# Altium schematic symbol library lps_regulator_3.SCHLIB: 43 symbols
Pins are listed as number, name and electrical type; pins without a type are passive.

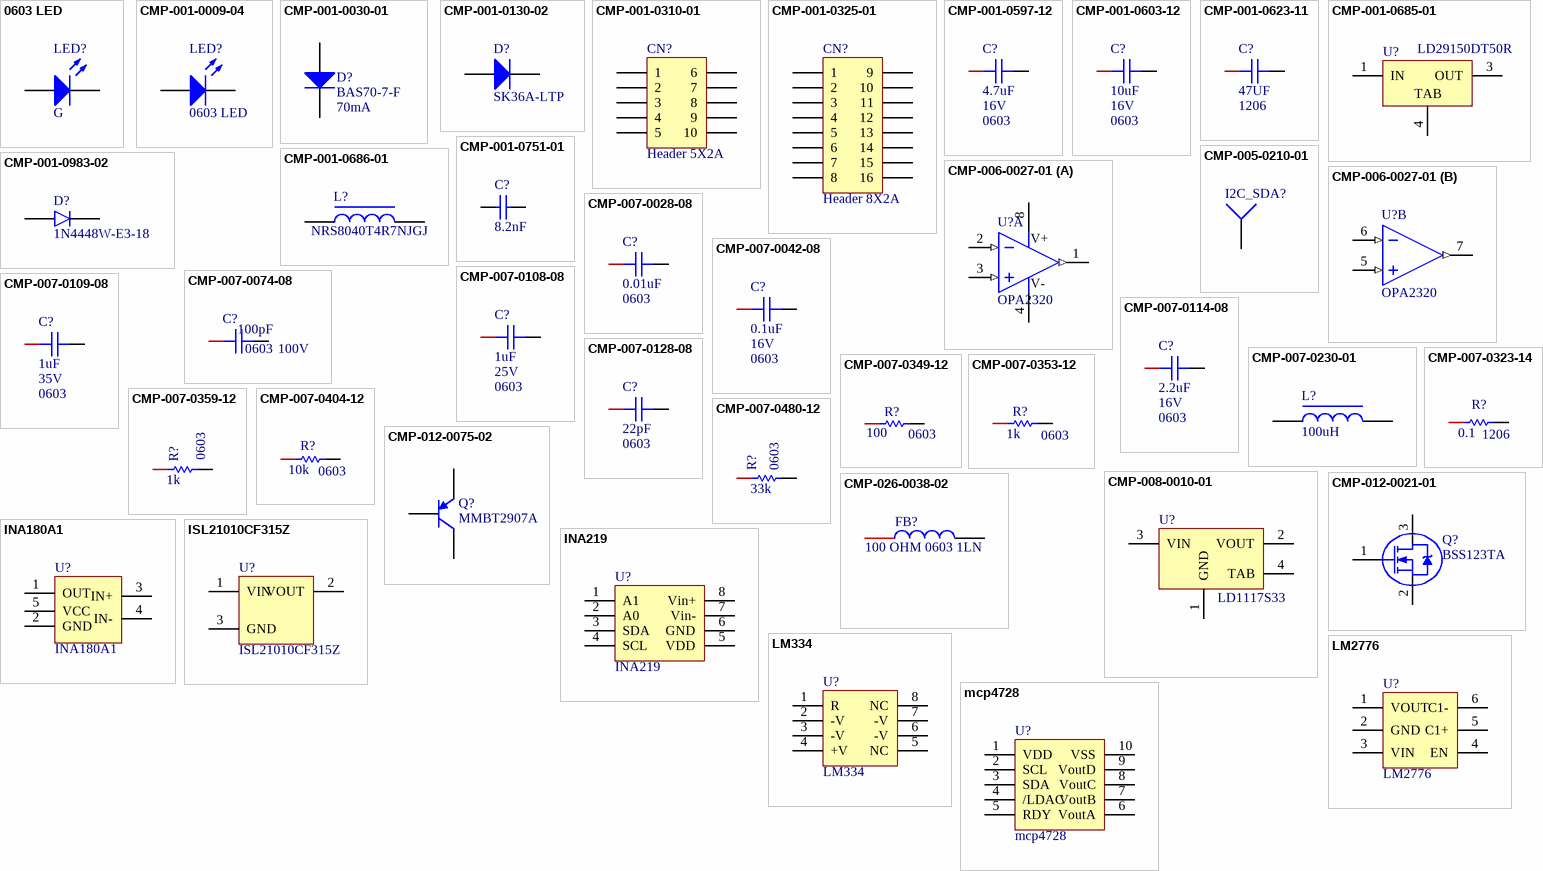
[diagram p0: symbols 0603 LED to mcp4728]

## 0603 LED
designator LED?, comment G
0603 SMD LED; PN: P11500CT-ND; Vendor: Digikey
footprint SM-LED-0603 (0603 LED)
pins: 1, 2

## CMP-001-0009-04
designator LED?, comment 0603 LED
0603 SMD LED; Manufacturer 1: Wurth Electronics; Manufacturer Part Number 1: 150060BS75000; Pin Count: 2; Designator: 0603 LED; Component Type: Diode
footprint SM-LED-0603 (0603 LED)
pins: 1 Anode, 2 Cathode

## CMP-001-0030-01
designator D?, comment BAS70-7-F  Output Current: 70mA
DIODE SCHOTTKY 70V 70MA SOT23-3; Manufacturer: Diodes; Power Dissipation: 200mW; Element Configuration: Single; Peak Non-Repetitive Surge Current: 100mA; Reverse Recovery Time: 5ns; Capacitance: 2pF; Forward Voltage: 1V; Polarity: Standard; Peak Reverse Current: 100nA; Max Reverse Voltage (DC): 70V; ComponentLink5URL: https://datasheet.ciiva.com/26949/getdatasheetpartid-110414-26949401.pdf; Package Quantity: 3000; Length: 3.05mm; ComponentLink2URL: https://datasheet.ciiva.com/911/ds11007-911988.pdf; Contact Plating: Tin,Matte; Min Operating Temperature: -55°C; ComponentLink5Description: https://datasheet.ciiva.com/26949/getdatasheetpartid-110414-26949401.pdf; Average Rectified Current: 70mA; ComponentLink6Description: https://datasheet.ciiva.com/27052/1539139-27052362.pdf; Pricing 1: 1=0.3, 10=0.244, 100=0.1292, 500=0.085, 1000=0.0578 (USD); Designator: BAS70-7-F; Radiation Hardening: No; Max Operating Temperature: 125°C; Manufacturer Part Number: BAS70-7-F; Max Forward Surge Current (Ifsm): 100mA; ComponentLink7URL: https://datasheet.ciiva.com/16574/ds11007-16574267.pdf; Max Power Dissipation: 200mW; ComponentLink3Description: https://datasheet.ciiva.com/911/ds11007-911989.pdf; Weight: 0.000282oz; Max Repetitive Reverse Voltage (Vrrm): 70V; Lead Free: Lead Free; Case/Package: SOT-23; Power Rating: 200mW; Pin Count: 2; Mount: Surface Mount; ComponentLink6URL: https://datasheet.ciiva.com/27052/1539139-27052362.pdf; ComponentLink4Description: https://datasheet.ciiva.com/8301/ds11007-8301623.pdf; Height: 1mm; Packaging: Tape and Reel; Number of Pins: 3; ComponentLink4URL: https://datasheet.ciiva.com/8301/ds11007-8301623.pdf; Forward Current: 70mA; Width: 1.4mm; Stock 1: 64007; Termination: SMD/SMT; Component Name: BAS70-7-F; ComponentLink7Description: https://datasheet.ciiva.com/16574/ds11007-16574267.pdf; ComponentLink3URL: https://datasheet.ciiva.com/911/ds11007-911989.pdf; ComponentLink1Description: https://datasheet.ciiva.com/911/ds11007-911987.pdf; ComponentLink2Description: https://datasheet.ciiva.com/911/ds11007-911988.pdf; ComponentLink1URL: https://datasheet.ciiva.com/911/ds11007-911987.pdf; Manufacturer 1: Diodes; Manufacturer Part Number 1: BAS70-7-F; Component Type: Diode
footprint SOT23 (SOT-23; 3 Leads; Body 3.0 x 2.5 mm, inc. leads (LxW max))
pins: 1 A, 3 K

## CMP-001-0130-02
designator D?, comment SK36A-LTP
DIODE SCHOTTKY 60V 3A; Manufacturer: Micro Commercial Co; Manufacturer 1: MCC; Capacitance @ Vr, F: 250pF @ 4V, 1MHz; Current - Reverse Leakage @ Vr: 500µA @ 60V; Voltage - Forward (Vf) (Max) @ If: 750mV @ 3A; Speed: Fast Recovery =< 500ns, > 200mA (Io); Operating Temperature - Junction: -50°C ~ 125°C; RoHS: RoHS Compliant; Package / Case: DO-214AC, SMA; ComponentLink1Description: http://www.mccsemi.com/up_pdf/SK32A-LT~SK310A-LT(DO-214AC).PDF; Packaging: Cut Tape (CT); Component Name: SK36A-LTP; ComponentLink1URL: http://www.mccsemi.com/up_pdf/SK32A-LT~SK310A-LT(DO-214AC).PDF; Designator: SK36A-LTP; Mounting Type: Surface Mount; Current - Average Rectified (Io): 3A; Supplier Device Package: DO-214AC (SMA); Part Status: Active; Manufacturer Part Number: SK36A-LTP; Pricing 1: 1=0.6, 10=0.42, 25=0.3448, 100=0.276, 250=0.20072, 500=0.1631, 1000=0.12545, 2500=0.11291 (USD); Diode Type: Schottky; Pin Count: 2; Stock 1: 26020; Manufacturer Part Number 1: SK36A-LTP; Component Type: Diode
footprint DO-214AC (2 Leads; Body 5.2 x 4.3mm, (LxW))
pins: 1 A, 2 K

## CMP-001-0310-01
designator CN?, comment Header 5X2A
Header, 5-Pin, Dual row; Signal Integrity: Connector; Designator: Header 5X2A; Component Name: Header 5X2A; LatestRevisionDate: 17-Jul-2002; LatestRevisionNote: Re-released for DXP Platform.; Pin Count: 10; Publisher: Altium Limited; Component Type: Connector
footprint HDR2X5_CEN (Connector; Header; 5x2 Position)
pins: 1, 2, 3, 4, 5, 6, 7, 8, 9, 10

## CMP-001-0325-01
designator CN?, comment Header 8X2A
Header, 8-Pin, Dual row; Signal Integrity: Connector; Publisher: Altium Limited; Designator: Header 8X2A; LatestRevisionNote: Re-released for DXP Platform.; Pin Count: 16; Component Name: Header 8X2A; LatestRevisionDate: 17-Jul-2002; Component Type: Connector
footprint HDR2X8_CEN (Connector; Header; 8x2 Position)
pins: 1, 2, 3, 4, 5, 6, 7, 8, 9, 10, 11, 12, 13, 14, 15, 16

## CMP-001-0597-12
designator C?, comment 4.7uF  Voltage (Rated): 16V  Package (Imperial): 0603
CAP CER 4.7uF 16V X5R 0603; Manufacturer 1: TDK; Manufacturer Part Number 1: C1608X5R1C475K080AC; Temperature (Min): -55°C; Package (Metric): 1608; Capacitance: 4.7µF; Dielectric Material: Ceramic; Temperature (Max): 85°C; Tolerance: 10%; Height: 800µm; Mounting Type: SMD; Length: 1.6mm; Temperature Coefficient: X5R; Component Type: Ceramic
footprint CAPC0603(1608)_M (Chip Capacitor, Body 1.6x0.8mm, Height 1.0mm, IPC Low Density)
footprint CAPC0603(1608)_L (Chip Capacitor, Body 1.6x0.8mm, Height 1.0mm, IPC High Density)
footprint CAPC0603(1608)_N (Chip Capacitor, Body 1.6x0.8mm, Height 1.0mm, IPC Medium Density)
pins: 1, 2
1 alternate drawing of the same symbol

## CMP-001-0603-12
designator C?, comment 10uF  Voltage (Rated): 16V  Package (Imperial): 0603
CAP CER 10UF 16V X5R 0603; Manufacturer 1: Murata; Manufacturer Part Number 1: GRM188R61C106KAALD; Capacitance: 10µF; Tolerance: 10%; Package (Metric): 1005; Dielectric Material: Ceramic; Temperature (Max): 85°C; Temperature (Min): -55°C; Height: 800µm; Mounting Type: SMD; Width: 800µm; Temperature Coefficient: X5R; Manufacturer 2: Samsung; Manufacturer Part Number 2: CL10A106MO8NQNC; Component Type: Ceramic
footprint CAPC0603(1608)_L (Chip Capacitor, Body 1.6x0.8mm, Height 1.0mm, IPC High Density)
footprint CAPC0603(1608)_M (Chip Capacitor, Body 1.6x0.8mm, Height 1.0mm, IPC Low Density)
footprint CAPC0603(1608)_N (Chip Capacitor, Body 1.6x0.8mm, Height 1.0mm, IPC Medium Density)
pins: 1, 2
1 alternate drawing of the same symbol

## CMP-001-0623-11
designator C?, comment 47UF  Package (Imperial): 1206
CAP CER 47UF 25V 1206; Manufacturer 1: TDK; Manufacturer Part Number 1: C3216X5R1E476M160AC; Voltage (Rated): 100V; Temperature (Max): 85°C; Capacitance: 47µF; Temperature Coefficient: X5R; Package (Metric): 3216; Tolerance: 20%; Dielectric Material: Ceramic; Temperature (Min): -55°C; Length: 3.2mm; Mounting Type: SMD; Height: 1.6mm; Component Type: Ceramic
footprint CAPC1206(3216)_L (Chip Capacitor, Body 3.2x1.6mm, Height 1.9mm, IPC High Density)
footprint CAPC1206(3216)_N (Chip Capacitor, Body 3.2x1.6mm, Height 1.9mm, IPC Medium Density)
footprint CAPC1206(3216)_M (Chip Capacitor, Body 3.2x1.6mm, Height 1.9mm, IPC Low Density)
pins: 1, 2
1 alternate drawing of the same symbol

## CMP-001-0685-01
designator U?, comment LD29150DT50R
STMICROELECTRONICS         LD29150DT33R            Fixed LDO Voltage Regulator, 4.3V to 30V, 400mV Dropout, 3.3Vout, 1.5Aout, TO-252-3; Min Output Voltage: 3.3V; Reference Voltage: 1.2423V; Polarity: Positive; Output Voltage Accuracy: 1%; Number of Outputs: 1; Max Output Voltage: 3.333V; Max Output Current: 1.5A; Quiescent Current: 15mA; Min Operating Temperature: -40°C; Packaging: Tape and Reel; Case/Package: TO-252; Weight: 0.01lb; Min Input Voltage: 4.3V; Nominal Output Voltage: 3.3V; Termination: SMD/SMT; Output Voltage: 3.3V; Width: 6.2mm; Radiation Hardening: No; Accuracy: 1%; Lead Free: Lead Free; Number of Pins: 3; Contact Plating: Matte, Tin; Mount: Surface Mount; Package Quantity: 1; Number of Regulators: 1; Max Supply Voltage: 30V; Output Current: 1.5A; Output Type: Fixed; Dropout Voltage: 400mV; REACH SVHC: No SVHC; Min Supply Voltage: 4.3V; Input Bias Current: 15mA; Max Input Voltage: 30V; Height: 2.4mm; Max Operating Temperature: 125°C; Length: 6.6mm; Manufacturer 1: STMicroelectronics; Manufacturer Part Number 1: LD29150DT33R
footprint TO-252_L
footprint TO-252_M
footprint TO-252_N
pins: 1 IN (power), 3 OUT (power), 4 TAB

## CMP-001-0686-01
designator L?, comment NRS8040T4R7NJGJ
INDUCTOR POWER 4.7UH 4.1A SMD; Manufacturer 1: Taiyo Yuden; Manufacturer Part Number 1: NRS8040T4R7NJGJV; Test Frequency: 100kHz; DC Resistance (DCR): 18mR; Saturation Current: 5.4A; Tolerance: 30%; Self Resonant Frequency: 30MHz; Core Material: Ferrite; Shielding: Shielded; Width: 0.315inch; Case/Package: 8040; Min Operating Temperature: -25°C; Current Rating: 4.1A; Packaging: Tape and Reel; Depth: 8.2mm; Max Operating Temperature: 125°C; Lead Free: Lead Free; Mount: Surface Mount; REACH SVHC: Unknown; Number of Pins: 2; Radiation Hardening: No; Height: 4.2mm; Inductance Tolerance: 30%; Package Quantity: 1000; Length: 8mm; RMS Current (Irms): 4.1A; Inductance: 4.7uh; Lead Pitch: 5.6mm; Max DC Current: 5.4A; Termination: SMD/SMT; Halogen Free: Halogen Free
footprint INDC8080X40N
pins: 1, 2

## CMP-001-0751-01
designator C?, comment 8.2nF
CAP CER 820PF 50V X7R 0603; Manufacturer 1: KEMET; Manufacturer Part Number 1: C0603C821K5RACTU; Dielectric Material: Ceramic; Dissipation Factor: 2.5%; Tolerance: 10%; Voltage Rating: 50V; REACH SVHC: No SVHC; Width: 0.8mm; Thickness: 0.034inch; Voltage Rating (DC): 50V; Mount: PCB, Surface Mount; Case Code (Imperial): 0603; Case/Package: 0603; Package Quantity: 1; Contact Plating: Matte, Tin; Length: 1.6mm; Min Operating Temperature: -55°C; Case Code (Metric): 1608; Capacitance: 820pF; Height: 0.8mm; Depth: 0.8mm; Lead Pitch: 0.7mm; Max Operating Temperature: 125°C; Voltage: 50V; Dielectric: X7R; Radiation Hardening: No; Packaging: Tape and Reel; Termination: SMD/SMT
footprint CAPC1608X87X35LL15T15
footprint CAPC1608X87X35NL15T15
footprint CAPC1608X87X35ML15T15
pins: 1, 2
1 alternate drawing of the same symbol

## CMP-001-0983-02
designator D?, comment 1N4448W-E3-18
Diodes - General Purpose, Power, Switching 100 Volt 500mA 4ns; Manufacturer 1: Vishay Semiconductors; Max Repetitive Reverse Voltage (Vrrm): 100V; Max Reverse Voltage (DC): 75V; Forward Current: 150mA; Element Configuration: Single; Max Reverse Leakage Current: 5uA; Max Power Dissipation: 500mW; Max Surge Current: 500mA; Recovery Time: 4ns; Peak Non-Repetitive Surge Current: 500mA; Min Operating Temperature: -55°C; Package Quantity: 10000; Reverse Recovery Time: 4ns; Weight: 0.000363oz; Mount: Surface Mount; Packaging: Tape and Reel; Contact Plating: Tin; Average Rectified Current: 150mA; Max Operating Temperature: 150°C; Manufacturer Part Number 1: 1N4448W-E3-18
footprint SOD123 (SOD-123; 2 Leads; Body 2.7 x 1.6 mm, (LxW))
pins: 1 A "1N4448", 2 C

## CMP-005-0210-01
designator I2C_SDA?, comment TestPoint_BLK  (value not drawn)
Test Point - Black; Manufacturer Part Number: 5001; Manufacturer: Keystone Electronics; Manufacturer 1: Terminal; Stock 1: 335679; Material: Base, Nylon 46, UL 94V-0; Terminal: 0.010" x 0.020" (0.25mm x 0.51mm) Phosphor Bronze Wire, Silver Plated; ComponentLink1URL: http://www.keyelco.com/product-pdf.cfm?p=1310; Packaging: Bulk; Mounting Type: 0.040" (1.02mm) Hole Diameter; Color: Black; Pin Count: 1; Component Name: TestPoint_BLK; Pricing 1: 1=0.37, 10=0.316, 50=0.2298, 100=0.2209, 250=0.19832, 500=0.18932, 1000=0.1616, 2500=0.14424, 5000=0.13523 (USD); ComponentLink1Description: http://www.keyelco.com/product-pdf.cfm?p=1310; RoHS: RoHS Compliant; Designator: TestPoint_BLK; Type: PC Test Point, Miniature; Manufacturer Part Number 1: 5001; Manufacturer 2: Keystone Electronics; Manufacturer Part Number 2: 5001
footprint TestPoint-TH 42 mil (Test Point - Thru-Hole 42 mil)
pins: 1

## CMP-006-0027-01
designator U?, comment OPA2320
Dual Single Supply Rail-to-Rail OpAmp; Manufacturer Part Number: OPA2320AIDR; Manufacturer: Texas Instruments; Amplifier Type: General Purpose; Voltage - Supply, Single/Dual (±): 1.8 V ~ 5.5 V, ±0.9 V ~ 2.75 V; Current - Supply: 1.45mA; Slew Rate: 10 V/µs; Source: OLogic-OpAmps.SCHLIB; Part Status: Active; Output Type: Rail-to-Rail; Packaging: Cut Tape (CT); Supplier Device Package: 8-SOIC; Pin Count: 8; Stock 1: 3660; RoHS: RoHS Compliant; Base Part Number: OPA2320; ComponentLink1Description: http://www.ti.com/lit/ds/symlink/opa2320.pdf; Component Name: OPA2320; Package / Case: 8-SOIC (0.154", 3.90mm Width); Designator: OPA2320; ComponentLink1URL: http://www.ti.com/lit/ds/symlink/opa2320.pdf; Mounting Type: Surface Mount; Operating Temperature: -40°C ~ 125°C; Pricing 1: 1=3, 10=2.697, 100=2.2094, 500=1.88078, 1000=1.5862 (USD); Manufacturer 1: Texas Instruments; Manufacturer Part Number 1: OPA2320AIDR; Component Type: OpAmp
footprint SOIC-8_NoPad (SOIC, 8-Leads, Body 4.90x3.90mm, Pitch 1.27mm, IPC Medium Density)
part A pins: 1 OUTA (out), 2 INA- (in), 3 INA+ (in), 4 V- (power), 8 V+ (power)
part B pins: 5 INB+ (in), 6 INB- (in), 7 OUTB (out)

## CMP-007-0028-08
designator C?, comment 0.01uF  Package (Imperial): 0603
CAP CER 0.01uF 50V 10% X7R 0603; Manufacturer 1: Murata; Manufacturer Part Number 1: GCM188R71H103KA37J; Temperature (Max): 125°C; Temperature (Min): -55°C; Dielectric Material: Ceramic; Capacitance: 10nF; Package (Metric): 1608; Voltage (Rated): 50V; Height: 900µm; Mounting Type: SMD; Temperature Coefficient: X7R; Width: 800µm; Tolerance: 10%; Length: 1.6mm; Component Type: Ceramic
footprint CAPC0603(1608)_N (Chip Capacitor, Body 1.6x0.8mm, Height 1.0mm, IPC Medium Density)
footprint CAPC0603(1608)_L (Chip Capacitor, Body 1.6x0.8mm, Height 1.0mm, IPC High Density)
footprint CAPC0603(1608)_M (Chip Capacitor, Body 1.6x0.8mm, Height 1.0mm, IPC Low Density)
pins: 1, 2
1 alternate drawing of the same symbol

## CMP-007-0042-08
designator C?, comment 0.1uF  Voltage (Rated): 16V  Package (Imperial): 0603
CAP CER 0.1UF 16V 10% X7R 0603; Manufacturer 1: Wurth Electronics; Manufacturer Part Number 1: 885012206046; Package (Metric): 1608; Dielectric Material: Ceramic; Capacitance: 100nF; Tolerance: 10%; Temperature Coefficient: X7R; Mounting Type: SMD; Component Type: Ceramic
footprint CAPC0603(1608)_M (Chip Capacitor, Body 1.6x0.8mm, Height 1.0mm, IPC Low Density)
footprint CAPC0603(1608)_L (Chip Capacitor, Body 1.6x0.8mm, Height 1.0mm, IPC High Density)
footprint CAPC0603(1608)_N (Chip Capacitor, Body 1.6x0.8mm, Height 1.0mm, IPC Medium Density)
pins: 1, 2
1 alternate drawing of the same symbol

## CMP-007-0074-08
designator C?, comment 100pF  Voltage (Rated): 100V  Package (Imperial): 0603
CAP CER 100PF 50V 5% NP0 0603; Manufacturer 1: KEMET; Manufacturer Part Number 1: C0603C101J5GACTU; Package (Metric): 1608; Dielectric Material: Ceramic; Temperature Coefficient: C0G, NP0; Capacitance: 100pF; Tolerance: 5%; Mounting Type: SMD; Component Type: Ceramic
footprint CAPC0603(1608)_L (Chip Capacitor, Body 1.6x0.8mm, Height 1.0mm, IPC High Density)
footprint CAPC0603(1608)_M (Chip Capacitor, Body 1.6x0.8mm, Height 1.0mm, IPC Low Density)
footprint CAPC0603(1608)_N (Chip Capacitor, Body 1.6x0.8mm, Height 1.0mm, IPC Medium Density)
pins: 1, 2
1 alternate drawing of the same symbol

## CMP-007-0108-08
designator C?, comment 1uF  Voltage (Rated): 25V  Package (Imperial): 0603
CAP CER 1UF 25V 10% X7R 0603; Manufacturer 1: TDK; Manufacturer Part Number 1: CGA3E1X7R1E105K080AC; Capacitance: 1µF; Temperature (Max): 125°C; Temperature (Min): -55°C; Dielectric Material: Ceramic; Package (Metric): 1608; Length: 1.6mm; Temperature Coefficient: X7R; Tolerance: 10%; Mounting Type: SMD; Width: 800µm; Height: 900µm; Manufacturer 2: Taiyo Yuden; Manufacturer Part Number 2: CETMK107BJ105KA-T; Component Type: Ceramic
footprint CAPC0603(1608)_N (Chip Capacitor, Body 1.6x0.8mm, Height 1.0mm, IPC Medium Density)
footprint CAPC0603(1608)_M (Chip Capacitor, Body 1.6x0.8mm, Height 1.0mm, IPC Low Density)
footprint CAPC0603(1608)_L (Chip Capacitor, Body 1.6x0.8mm, Height 1.0mm, IPC High Density)
pins: 1, 2
1 alternate drawing of the same symbol

## CMP-007-0109-08
designator C?, comment 1uF  Voltage (Rated): 35V  Package (Imperial): 0603
CAP CER 1UF 35V 10% X5R 0603; Manufacturer 1: Taiyo Yuden; Manufacturer Part Number 1: GMK107BJ105KA-T; Temperature (Min): -55°C; Temperature (Max): 85°C; Dielectric Material: Ceramic; Package (Metric): 1608; Capacitance: 1µF; Length: 1.6mm; Mounting Type: SMD; Height: 900µm; Tolerance: 10%; Temperature Coefficient: X5R; Width: 800µm; Component Type: Ceramic
footprint CAPC0603(1608)_L (Chip Capacitor, Body 1.6x0.8mm, Height 1.0mm, IPC High Density)
footprint CAPC0603(1608)_N (Chip Capacitor, Body 1.6x0.8mm, Height 1.0mm, IPC Medium Density)
footprint CAPC0603(1608)_M (Chip Capacitor, Body 1.6x0.8mm, Height 1.0mm, IPC Low Density)
pins: 1, 2
1 alternate drawing of the same symbol

## CMP-007-0114-08
designator C?, comment 2.2uF  Voltage (Rated): 16V  Package (Imperial): 0603
CAP CER 2.2UF 16V 10% X5R 0603; Manufacturer 1: Taiyo Yuden; Manufacturer Part Number 1: EMK107BJ225KA-T; Package (Metric): 1608; Capacitance: 2.2µF; Dielectric Material: Ceramic; Mounting Type: SMD; Tolerance: 10%; Temperature Coefficient: X5R; Component Type: Ceramic
footprint CAPC0603(1608)_L (Chip Capacitor, Body 1.6x0.8mm, Height 1.0mm, IPC High Density)
footprint CAPC0603(1608)_M (Chip Capacitor, Body 1.6x0.8mm, Height 1.0mm, IPC Low Density)
footprint CAPC0603(1608)_N (Chip Capacitor, Body 1.6x0.8mm, Height 1.0mm, IPC Medium Density)
pins: 1, 2
1 alternate drawing of the same symbol

## CMP-007-0128-08
designator C?, comment 22pF  Package (Imperial): 0603
CAP CER 22PF 50V 5% NP0 0603; Manufacturer 1: KEMET; Manufacturer Part Number 1: C0603C220J5GACTU; Dielectric Material: Ceramic; Package (Metric): 1608; Temperature Coefficient: C0G, NP0; Voltage (Rated): 50V; Tolerance: 5%; Capacitance: 22pF; Mounting Type: SMD; Component Type: Ceramic
footprint CAPC0603(1608)_M (Chip Capacitor, Body 1.6x0.8mm, Height 1.0mm, IPC Low Density)
footprint CAPC0603(1608)_N (Chip Capacitor, Body 1.6x0.8mm, Height 1.0mm, IPC Medium Density)
footprint CAPC0603(1608)_L (Chip Capacitor, Body 1.6x0.8mm, Height 1.0mm, IPC High Density)
pins: 1, 2
1 alternate drawing of the same symbol

## CMP-007-0230-01
designator L?, comment 100uH
100uH 6x6mm; Manufacturer: Abracon LLC; Manufacturer Part Number: ASPI-6045S-101M-T; Manufacturer 1: Abracon; DC Resistance (DCR): 433 mOhm; Tolerance: ±20%; Shielding: Shielded; Material - Core: Ferrite; Designator: INDUCTOR 100UH 800MA 20% SMD; Type: Wirewound; ComponentLink1URL: http://www.abracon.com/Magnetics/power/ASPI-6045S.pdf; Supplier Device Package: -; RoHS: RoHS Compliant; Mounting Type: Surface Mount; Part Status: Active; Pin Count: 2; Stock 1: 2032; Component Name: INDUCTOR 100UH 800MA 20% SMD; Q @ Freq: -; Operating Temperature: -40°C ~ 125°C; Package / Case: Nonstandard; Height - Seated (Max): 0.177" (4.50mm); Packaging: Cut Tape (CT); Ratings: -; ComponentLink1Description: http://www.abracon.com/Magnetics/power/ASPI-6045S.pdf; Pricing 1: 1=0.67, 10=0.588, 25=0.546, 50=0.462, 100=0.42, 250=0.3948, 500=0.3528 (USD); Size / Dimension: 0.236" L x 0.236" W (6.00mm x 6.00mm); Manufacturer Part Number 1: ASPI-6045S-101M-T
footprint IND_TAIYO_NR6028
pins: 1, 2

## CMP-007-0323-14
designator R?, comment Package (Imperial): 1206  Resistance: 0.1  (hidden comment: 0.33)
RES 0.33 OHM 1% 1/4W 1206; Manufacturer 1: Panasonic; Manufacturer Part Number 1: ERJ-8RQF3R3V; Max Power Dissipation: 250mW; Temperature Coefficient: 200ppm/°C; Max Operating Temperature: 125°C; Radiation Hardening: No; Military Standard: Not; Composition: Thick Film; Package (Metric): 1206; Packaging: Tape and Reel; Number of Pins: 2; Termination: SMD/SMT; Min Operating Temperature: -55°C; Package Quantity: 1; Power: 250mW; Number of Terminations: 2; Features: Automotive AEC-Q200; Mount: Surface Mount; Width: 1.6mm; Contact Plating: Tin; Height: 600µm; Length: 3.2mm; Tolerance: 1%; Depth: 1.6mm; Power Rating: 250mW; Component Type: Resistor
simulation model RESISTOR (Resistor)
footprint RESC1206(3216)_N (Chip Resistor, Body 3.2x1.6mm, IPC Medium Density)
footprint RESC1206(3216)_L (Chip Resistor, Body 3.2x1.6mm, IPC High Density)
pins: 1, 2

## CMP-007-0349-12
designator R?, comment Package (Imperial): 0603  (hidden comment: 100)
RES 100 OHM 1% 1/10W 0603 2017; Manufacturer 1: Panasonic; Manufacturer Part Number 1: ERJ3EKF1000V; Power: 100mW; Temperature Coefficient: ±100ppm/°C; Package (Metric): 1608; Termination: SMD/SMT; Tolerance: 1%; Resistance: 100; Height: 550µm; Operating Temperature: -55°C ~ 155°C; Manufacturer 2: Bourns; Manufacturer Part Number 2: CR0603-FX-1000ELF; Component Type: Resistor
footprint RESC0603(1608)_N (Chip Resistor, Body 1.6x0.8mm, IPC Medium Density)
footprint RESC0603(1608)_M (Chip Resistor, Body 1.6x0.8mm, IPC Low Density)
footprint RESC0603(1608)_L (Chip Resistor, Body 1.6x0.8mm, IPC High Density)
pins: 1, 2

## CMP-007-0353-12
designator R?, comment Package (Imperial): 0603  Resistance: 1k  (hidden comment: 100K)
RES 100K OHM 1% 1/10W 0603; Manufacturer 1: Yageo; Manufacturer Part Number 1: RC0603FR-07100KL; Temperature Coefficient: ±100ppm/°C; Power: 100mW; Package (Metric): 1608; Operating Temperature: -55°C ~ 155°C; Tolerance: 1%; Height: 550µm; Termination: SMD/SMT; Component Type: Resistor
footprint RESC0603(1608)_M (Chip Resistor, Body 1.6x0.8mm, IPC Low Density)
footprint RESC0603(1608)_L (Chip Resistor, Body 1.6x0.8mm, IPC High Density)
footprint RESC0603(1608)_N (Chip Resistor, Body 1.6x0.8mm, IPC Medium Density)
pins: 1, 2

## CMP-007-0359-12
designator R?, comment Package (Imperial): 0603  Resistance: 1k  (hidden comment: 10K)
RES 10K OHM 1/10W 1% 0603 SMD; Manufacturer 1: TE Connectivity; Manufacturer Part Number 1: CRG0603F10K; Package (Metric): 1608; Power: 100mW; Temperature Coefficient: ±100ppm/°C; Height: 550µm; Termination: SMD/SMT; Tolerance: 1%; Component Type: Resistor
footprint RESC0603(1608)_M (Chip Resistor, Body 1.6x0.8mm, IPC Low Density)
footprint RESC0603(1608)_L (Chip Resistor, Body 1.6x0.8mm, IPC High Density)
footprint RESC0603(1608)_N (Chip Resistor, Body 1.6x0.8mm, IPC Medium Density)
pins: 1, 2

## CMP-007-0404-12
designator R?, comment Package (Imperial): 0603  Resistance: 10k  (hidden comment: 1.0K)
RES 1K OHM 1% 1/10W 0603; Temperature Coefficient: ±100ppm/°C; Power: 100mW; Package (Metric): 2012; Operating Temperature: -55°C ~ 155°C; Tolerance: 1%; Termination: SMD/SMT; Height: 550µm; Component Type: Resistor
footprint RESC0603(1608)_M (Chip Resistor, Body 1.6x0.8mm, IPC Low Density)
footprint RESC0603(1608)_L (Chip Resistor, Body 1.6x0.8mm, IPC High Density)
footprint RESC0603(1608)_N (Chip Resistor, Body 1.6x0.8mm, IPC Medium Density)
pins: 1, 2

## CMP-007-0480-12
designator R?, comment Package (Imperial): 0603  (hidden comment: 33K)
RES 33K OHM 1/10W 5% 0603 SMD; Temperature Coefficient: ±200ppm/°C; Power: 100mW; Package (Metric): 1608; Termination: SMD/SMT; Tolerance: 5%; Resistance: 33k; Height: 550µm; Component Type: Resistor
simulation model RESISTOR (Resistor)
footprint RESC0603(1608)_L (Chip Resistor, Body 1.6x0.8mm, IPC High Density)
footprint RESC0603(1608)_N (Chip Resistor, Body 1.6x0.8mm, IPC Medium Density)
footprint RESC0603(1608)_M (Chip Resistor, Body 1.6x0.8mm, IPC Low Density)
pins: 1, 2

## CMP-008-0010-01
designator U?, comment LD1117S33
3.3 volt fixed regulator, 800mA; Manufacturer 1: STMicroelectronics; Manufacturer Part Number 1: LD1117S33TR; Pin Count: 4; Designator: LD1117S33; Component Name: LD1117S33
footprint DSO-G3 (SOT-223/SC-73; 4 Leads; Body 6.7 x 7.3 mm, inc. leads (LxW max))
pins: 1 GND (power), 2 VOUT (power), 3 VIN (power), 4 TAB (power)

## CMP-012-0021-01
designator Q?, comment BSS123TA
MOSFET N-CH 100V 170MA SOT23-3; Manufacturer: Diodes Incorporated; Manufacturer 1: Diodes; Drive Voltage (Max Rds On,  Min Rds On): 4.5V, 10V; Rds On (Max) @ Id, Vgs: 6 Ohm @ 100mA, 10V; FET Type: N-Channel; Vgs(th) (Max) @ Id: 2.8V @ 1mA; Power Dissipation (Max): 360mW (Ta); Vgs (Max): ±20V; Current - Continuous Drain (Id) @ 25°C: 170mA (Ta); Manufacturer Part Number: BSS123TA; Technology: MOSFET (Metal Oxide); Package / Case: TO-236-3, SC-59, SOT-23-3; ComponentLink1Description: https://www.diodes.com/assets/Datasheets/BSS123.pdf; Designator: BSS123TA; Component Name: BSS123TA; Pricing 1: 1=0.59, 10=0.418, 100=0.2742, 500=0.16202, 1000=0.12463 (USD); FET Feature: -; Operating Temperature: -55°C ~ 150°C (TJ); ComponentLink1URL: https://www.diodes.com/assets/Datasheets/BSS123.pdf; Packaging: Cut Tape (CT); Part Status: Active; Pin Count: 3; Stock 1: 35338; Mounting Type: Surface Mount; RoHS: RoHS Compliant; Supplier Device Package: SOT-23-3; Manufacturer Part Number 1: BSS123TA; Component Type: Transistor
footprint SOT23-3L (SOT23, 3-Leads, Body 2.9x1.3mm, Pitch 0.95mm, Lead Span 2.5mm, IPC High Density)
footprint SOT23-3M (SOT23, 3-Leads, Body 2.9x1.3mm, Pitch 0.95mm, Lead Span 2.5mm, IPC Low Density)
footprint SOT23-3N (SOT23, 3-Leads, Body 2.9x1.3mm, Pitch 0.95mm, Lead Span 2.5mm, IPC Medium Density)
pins: 1 G, 2 S, 3 D

## CMP-012-0075-02
designator Q?, comment MMBT2907A
PNP General Purpose Amplifier; Manufacturer: Fairchild Semiconductor; Manufacturer 1: ON Semiconductor / Fairchild; Voltage - Collector Emitter Breakdown (Max): 60V; DC Current Gain (hFE) (Min) @ Ic, Vce: 100 @ 150mA, 10V; Vce Saturation (Max) @ Ib, Ic: 1.6V @ 50mA, 500mA; Vendor: Digikey; Current - Collector (Ic) (Max): 800mA; Frequency - Transition: 200MHz; Power - Max: 350mW; PN: MMBT2907AFSCT-ND; Transistor Type: PNP; Manufacturer Part Number: MMBT2907A; Supplier Device Package: SOT-23; Mounting Type: Surface Mount; ComponentLink1URL: http://www.fairchildsemi.com/ds/MM/MMBT2907A.pdf; Component Name: MMBT2907A; ComponentLink1Description: http://www.fairchildsemi.com/ds/MM/MMBT2907A.pdf; Pricing 1: 1=0.2, 10=0.187, 25=0.17, 100=0.1224, 250=0.07208, 500=0.0598, 1000=0.04079 (USD); Current - Collector Cutoff (Max): -; Designator: MMBT2907A; Stock 1: 74892; Packaging: Cut Tape (CT); MPN: MMBT2907A; Pin Count: 3; Package / Case: TO-236-3, SC-59, SOT-23-3; RoHS: RoHS Compliant; Manufacturer Part Number 1: MMBT2907A; Component Type: Transistor
footprint SOT23 (SOT-23; 3 Leads; Body 3.0 x 2.5 mm, inc. leads (LxW max))
pins: 1 B, 2 E, 3 C

## CMP-026-0038-02
designator FB?, comment 100 OHM 0603 1LN
100 Ohms @ 100MHz 1 Power Line Ferrite Bead 0603 (1608 Metric) 3A 30mOhm; Manufacturer: TDK; Manufacturer Part Number: MPZ1608S101A; ICSPartNumber: 600-0180; LifeStatus: CUR; MntType: SMT; Designator: L; OpTemp: -55C ~ 125C; value: 100R@100M; Component Name: FERRITE_BEAD_A; PkgCase: 0603; Pin Count: 2; Revision: REV; HelpURL: http://www.tdk.co.jp/tefe02/e9413_mpz.pdf; ICS_PartType: ferrite; RoHS: ROHS; DateCreated: 5/27/2013 5:21:44 PM; IPCCode: INDC1608X75-2; Features: 30 mOhm Max; DateModified: 10/30/2014 12:43:40 AM; PartType: ferrite; Current: 3A; PartID: IND-000082; Manufacturer 1: TDK; Manufacturer Part Number 1: MPZ1608S101A; Manufacturer 2: TDK; Manufacturer Part Number 2: MPZ1608S101ATAH0
footprint 0603-SMT
pins: 1, 2

## INA180A1
designator U?
footprint SOT-23-5_MC
pins: 1 OUT, 2 GND, 3 IN+, 4 IN-, 5 VCC

## INA219
designator U?
Current Monitor IC
footprint INA219 (Current Monitor)
pins: 1 A1, 2 A0, 3 SDA, 4 SCL, 5 VDD, 6 GND, 7 Vin-, 8 Vin+

## ISL21010CF315Z
designator U?
footprint SOT23 (SOT-23; 3 Leads; Body 3.0 x 2.5 mm, inc. leads (LxW max))
pins: 1 VIN, 2 VOUT, 3 GND

## LM334
designator U?
LM334, Current source
footprint LM334 (LM334, Current Source)
footprint LM334 (LM334, Current Source)
pins: 1 R, 2 -V, 3 -V, 4 +V, 5 NC, 6 -V, 7 -V, 8 NC

## LM2776
designator U?
footprint SOt-23-6
pins: 1 VOUT, 2 GND, 3 VIN, 4 EN, 5 C1+, 6 C1-

## mcp4728
designator U?
footprint MCP4728 (12 bit, Quad DAC)
pins: 1 VDD, 2 SCL, 3 SDA, 4 /LDAC, 5 RDY, 6 VoutA, 7 VoutB, 8 VoutC, 9 VoutD, 10 VSS

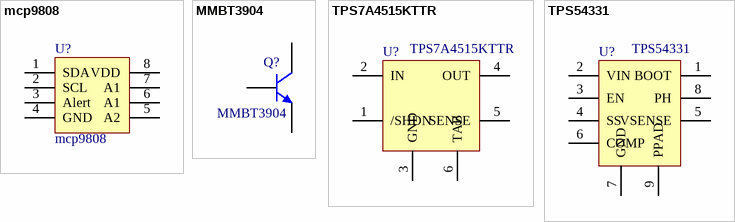
[diagram p1: symbols mcp9808 to TPS54331]

## mcp9808
designator U?
footprint 8MSOP
pins: 1 SDA, 2 SCL, 3 Alert, 4 GND, 5 A2, 6 A1, 7 A1, 8 VDD

## MMBT3904
designator Q?
NPN General Purpose Amplifier; Manufacturer: ON Semiconductor; MPN: MMBT3904WT1G; Vendor: Digikey; PN: MMBT3904WT1GOSCT-ND; Current - Collector (Ic) (Max): 200mA; Voltage - Collector Emitter Breakdown (Max): 40V; Vce Saturation (Max) @ Ib, Ic: 300mV @ 5mA, 50mA; DC Current Gain (hFE) (Min) @ Ic, Vce: 100 @ 10mA, 1V; Power - Max: 150mW; Frequency - Transition: 300MHz; Supplier 1: Digi-Key; Manufacturer Part Number: MMBT3904WT1G; RoHS: RoHS Compliant; Category: Discrete Semiconductor Products; Stock 1: 3; Pricing 1: 1=0.17, 10=0.154, 25=0.1404, 100=0.101, 250=0.05952, 500=0.04938, 1000=0.03368 (USD); Packaging: Cut Tape (CT); Transistor Type: NPN; Current - Collector Cutoff (Max): -; Mounting Type: Surface Mount; Package / Case: SC-70, SOT-323; Supplier Device Package: SC-70-3 (SOT323); ComponentLink1URL: http://www.onsemi.com/pub_link/Collateral/MMBT3904WT1-D.PDF; ComponentLink1Description: http://www.onsemi.com/pub_link/Collateral/MMBT3904WT1-D.PDF; Supplier Part Number 1: MMBT3904WT1GOSCT-ND
footprint SOT323 SC-70 (SOT-323; 3 Leads; Body 2.1 x 2.1 mm, inc. leads (LxW max))
footprint SOT23
pins: 1 B, 2 E, 3 C

## TPS7A4515KTTR
designator U?
TPS7A4515KTTR, linear regulator
footprint TPS7A4515KTTR
pins: 1 /SHDN, 2 IN, 3 GND, 4 OUT, 5 SENSE, 6 TAB

## TPS54331
designator U?
footprint TPS54331 (TPS54331 footprint)
pins: 1 BOOT, 2 VIN, 3 EN, 4 SS, 5 VSENSE, 6 COMP, 7 GND, 8 PH, 9 PPAD